# Altium footprint library ble_ac_rc_lib.PcbLib: 62 footprints (part 4 of 4)
Each footprint in its own frame and in the unit in brackets; x right, y up, seen from the top. Pads: shape width x height; smd on the part's side, far side on the other; paste and mask are expansions set on the pad; w line width, h text height; cw(c..) or ccw(c..) is an arc to the next point about the centre after c.
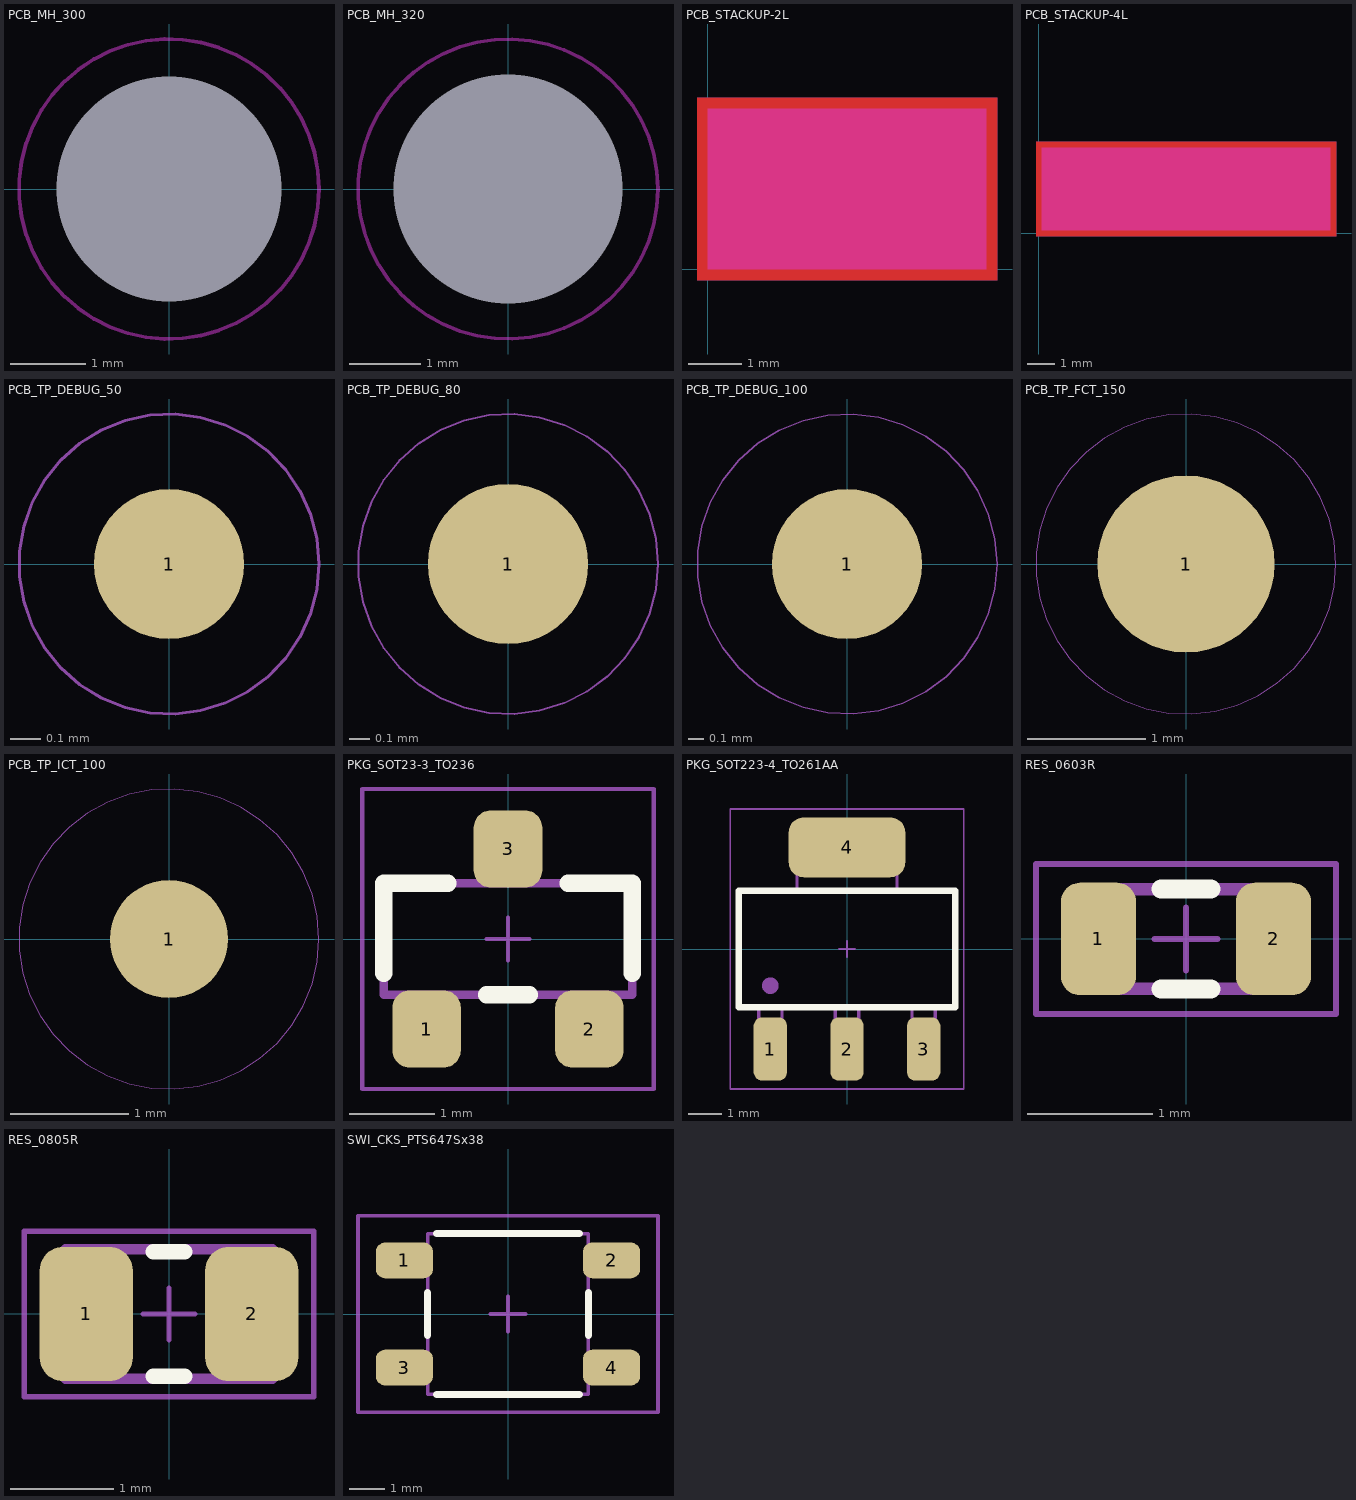
[diagram p3: the footprints below, top view; thin cyan lines are the x and y axes]

## PCB_MH_300 [mm]
pads (1):
  round 0 hole 3 unplated mask+0.2: 0(0,0)
Keep-Out Layer:
  circle w0.05: c0,0 r2

## PCB_MH_320 [mm]
pads (1):
  round 0 hole 3.2 unplated mask+0.2: 0(0,0)
Keep-Out Layer:
  circle w0.05: c0,0 r2.1

## PCB_STACKUP-2L [mm]
Layer Top:
  pour cut-out: -0.2,3.2 5.4,3.2 5.4,-0.2 -0.2,-0.2
  lines w0.3: 0.15,0.15 2.45,0.15 2.45,2.85 0.15,2.85 0.15,0.15
  text "1" at 1.05,0.75 h1.5
Layer Bottom:
  pour cut-out: 5.4,3.2 -0.2,3.2 -0.2,-0.2 5.4,-0.2
  lines w0.3: 2.75,0.15 5.05,0.15 5.05,2.85 2.75,2.85 2.75,0.15
  text "2" at 3.4,0.75 h1.5
Soldermask Top:
  rectangle: 2.6,0 5.2,3
Soldermask Bottom:
  rectangle: 0,0 2.6,3
Keep-Out Layer:
  rectangle: 0,0 5.2,3

## PCB_STACKUP-4L [mm]
Layer Top:
  pour cut-out: -0.1,3.3 10.7,3.3 10.7,-0.1 -0.1,-0.1
  lines w0.3: 0.25,0.25 2.55,0.25 2.55,2.95 0.25,2.95 0.25,0.25
  text "1" at 1.15,0.85 h1.5
L2:
  pour cut-out: -0.1,3.3 10.7,3.3 10.7,-0.1 -0.1,-0.1
  lines w0.3: 2.85,0.25 2.85,2.95 5.15,2.95 5.15,0.25 2.85,0.25
  text "2" at 3.5,0.85 h1.5
L3:
  pour cut-out: -0.1,3.3 10.7,3.3 10.7,-0.1 -0.1,-0.1
  lines w0.3: 5.45,0.25 5.45,2.95 7.75,2.95 7.75,0.25 5.45,0.25
  text "3" at 6.1,0.85 h1.5
Layer Bottom:
  pour cut-out: 10.7,3.3 -0.1,3.3 -0.1,-0.1 10.7,-0.1
  lines w0.3: 8.05,0.25 8.05,2.95 10.35,2.95 10.35,0.25 8.05,0.25
  text "4" at 8.7,0.85 h1.5
Soldermask Top:
  rectangle: 2.7,0.1 10.5,3.1
Soldermask Bottom:
  rectangle: 0.1,0.1 7.9,3.1
Keep-Out Layer:
  rectangle: 0.1,0.1 10.5,3.1

## PCB_TP_DEBUG_50 [mm] "testpoint"
pads (1):
  round 0.5 smd paste-10: 1(0,0)
M27 TestpointTop:
  circle w0.01: c0,0 r0.5
  text ".Designator" at -0.6,-0.2 h0.5

## PCB_TP_DEBUG_80 [mm] "testpoint"
pads (1):
  round 0.8 smd paste-10: 1(0,0)
M27 TestpointTop:
  circle w0.01: c0,0 r0.75
  text ".Designator" at -0.6,-0.2 h0.5

## PCB_TP_DEBUG_100 [mm] "testpoint"
pads (1):
  round 1 smd paste-10: 1(0,0)
M27 TestpointTop:
  circle w0.01: c0,0 r1
  text ".Designator" at -0.6,-0.2 h0.5

## PCB_TP_FCT_150 [mm] "testpoint"
pads (1):
  round 1.5 smd paste-10: 1(0,0)
M27 TestpointTop:
  circle w0.01: c0,0 r1.27
  text ".Designator" at -0.6,-0.2 h0.5

## PCB_TP_ICT_100 [mm] "testpoint"
pads (1):
  round 1 smd paste-10: 1(0,0)
M27 TestpointTop:
  circle w0.01: c0,0 r1.27
  text ".Designator" at -0.6,-0.2 h0.5

## PKG_SOT23-3_TO236 [mm]
pads (3):
  rrect50% 0.8x0.9 smd: 1(-0.95,-1.05) 2(0.95,-1.05) 3(0,1.05)
Silkscreen Top:
  lines w0.2: -1.45,-0.4 -1.45,0.65 -0.7,0.65 ; -0.25,-0.65 0,-0.65 0.25,-0.65 ; 0.7,0.65 1.45,0.65 1.45,-0.4
M19 AssemblySMDTop:
  lines w0.1: -1.2,-0.65 -1.2,-1.221 -0.7,-1.221 -0.7,-0.65 ; -0.25,0.65 -0.25,1.221 0.25,1.221 0.25,0.65 ; 0.7,-0.65 0.7,-1.221 1.2,-1.221 1.2,-0.65 ; -1.45,-0.65 -1.45,0.65 1.45,0.65 1.45,-0.65 -1.45,-0.65
  text ".Designator" at -1.15,-0.45 h0.8
M23 CourtyardTop:
  lines w0.05: -0.25,0 0.25,0 ; 0,-0.25 0,0.25 ; -1.7,-1.75 -1.7,1.75 1.7,1.75 1.7,-1.75 -1.7,-1.75
3D body "SOT-23_ONSEMI.step": height 1, standoff 0, extent -1.444,-1.221 1.444,1.221

## PKG_SOT223-4_TO261AA [mm]
pads (4):
  rrect50% 1x1.9 smd: 1(-2.3,-3) 2(0,-3) 3(2.3,-3)
  rrect50% 3.5x1.8 smd: 4(0,3.05)
Silkscreen Top:
  lines w0.2: -3.25,-1.75 -3.25,1.75 3.25,1.75 3.25,-1.75 -3.25,-1.75
M19 AssemblySMDTop:
  circle w0.25: c-2.3,-1.1 r0.125
  lines w0.1: -2.65,-1.75 -2.65,-3.5 -1.95,-3.5 -1.95,-1.75 ; -1.5,1.75 -1.5,3.5 1.5,3.5 1.5,1.75 ; -0.35,-1.75 -0.35,-3.5 0.35,-3.5 0.35,-1.75 ; 1.95,-1.75 1.95,-3.5 2.65,-3.5 2.65,-1.75 ; -3.25,-1.75 3.25,-1.75 3.25,1.75 -3.25,1.75 -3.25,-1.75
  text ".Designator" at -2.8,-0.35 h0.8
M23 CourtyardTop:
  lines w0.05: -0.25,0 0.25,0 ; 0,-0.25 0,0.25 ; -3.5,-4.2 -3.5,4.2 3.5,4.2 3.5,-4.2 -3.5,-4.2
3D body "SOT-223-1.step": height 1.64, standoff -0.01, extent -3.25,-3.5 3.25,3.5

## RES_0603R [mm]
pads (2):
  rrect50% 0.6x0.9 smd: 1(-0.7,0) 2(0.7,0)
Silkscreen Top:
  lines w0.15: -0.2,-0.4 0.2,-0.4 ; -0.2,0.4 0.2,0.4
M19 AssemblySMDTop:
  lines w0.1: -0.8,-0.4 0.8,-0.4 0.8,0.4 -0.8,0.4 -0.8,-0.4
  text ".Designator" at -0.6,-0.15 h0.4
M23 CourtyardTop:
  lines w0.05: -0.25,0 0.25,0 ; 0,-0.25 0,0.25 ; -1.2,-0.6 1.2,-0.6 1.2,0.6 -1.2,0.6 -1.2,-0.6
3D body "RESC1608X_0603.step": height 0.3, standoff 0, extent -0.8,-0.4 0.8,0.4

## RES_0805R [mm]
pads (2):
  rrect50% 0.9x1.3 smd: 1(-0.8,0) 2(0.8,0)
Silkscreen Top:
  lines w0.15: -0.15,-0.6 0.15,-0.6 ; -0.15,0.6 0.15,0.6
M19 AssemblySMDTop:
  lines w0.1: -1,-0.625 -1,0.625 1,0.625 1,-0.625 -1,-0.625
  text ".Designator" at -1.025,-0.275 h0.64
M23 CourtyardTop:
  lines w0.05: -0.25,0 0.25,0 ; 0,-0.25 0,0.25 ; -1.4,-0.8 -1.4,0.8 1.4,0.8 1.4,-0.8 -1.4,-0.8
3D body "RESC2012X40.step": height 0.4, standoff 0, extent -1,-0.6 1,0.6

## SWI_CKS_PTS647Sx38 [mm]
pads (4):
  rrect50% 1.6x1 smd: 1(-2.9,1.5) 2(2.9,1.5) 3(-2.9,-1.5) 4(2.9,-1.5)
Silkscreen Top:
  lines w0.2: -2.25,-0.6 -2.25,0.6 ; -2,-2.25 2,-2.25 ; -2,2.25 2,2.25 ; 2.25,-0.6 2.25,0.6
M19 AssemblySMDTop:
  lines w0.1: -2.25,-1.82 -3.25,-1.82 -3.25,-1.18 -2.25,-1.18 ; -2.25,1.18 -3.25,1.18 -3.25,1.82 -2.25,1.82 ; 2.25,-1.82 3.25,-1.82 3.25,-1.18 2.25,-1.18 ; 2.25,1.18 3.25,1.18 3.25,1.82 2.25,1.82 ; -2.25,-2.25 2.25,-2.25 2.25,2.25 -2.25,2.25 -2.25,-2.25
  text ".Designator" at -1.8,-0.4 h1
M23 CourtyardTop:
  lines w0.1: -0.5,0 0.5,0 ; 0,-0.5 0,0.5 ; -4.2,-2.75 4.2,-2.75 4.2,2.75 -4.2,2.75 -4.2,-2.75
3D body "PTS647Sx38.stp": height 3.8, standoff 0, extent -3.25,-2.25 3.25,2.25